# EAGLE library part 6PINHEADER (library PAS)
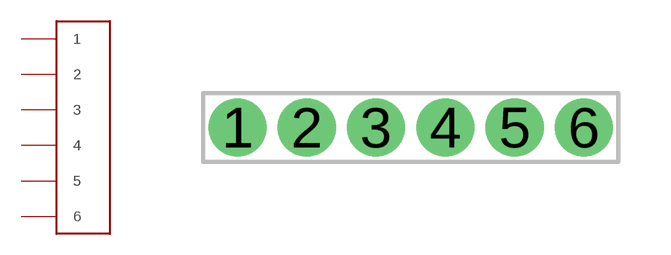
[diagram p5: symbol with the pads of 2MMHEADER; footprint 2MMHEADER]

Designator prefix CON

## 6PINHEADER  [2MMHEADER]
1  1  pas
2  2  pas
3  3  pas
4  4  pas
5  5  pas
6  6  pas

## Footprint 2MMHEADER (pad centres in mm)
2mm pitch 3M header
drill 0.8 pad 1.676 round: 1 -5,0; 2 -3,0; 3 -1,0; 4 1,0; 5 3,0; 6 5,0